# Altium schematic symbol library Inductors.SchLib: 5 symbols
Pins are listed as number, name and electrical type; pins without a type are passive.

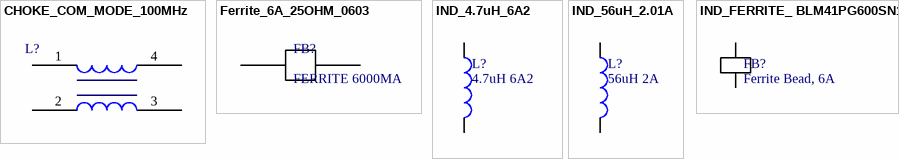
[diagram p0: symbols CHOKE_COM_MODE_100MHz to IND_FERRITE_ BLM41PG600SN1L]

## CHOKE_COM_MODE_100MHz
designator L?, comment CHOKE COM MODE ULTRA HC 100 OHMS  (value not drawn)
Manufacturer: Laird-Signal Integrity Products; Manufacturer P/N: CM5441Z101B-10
footprint Choke_CM5441Z101B-10 (CHOKE, COMMON, 100MHZ, SMD, 100R)
pins: 1 (power), 2 (power), 3 (power), 4 (power)

## Ferrite_6A_25OHM_0603
designator FB?, comment FERRITE 6000MA
FERRITE CHIP 26 OHM 6000MA 0603; Manufacturer: Murata Electronics North America; Manufacturer P/N: BLM18KG260TN1D
footprint 0603
pins: 1, 2

## IND_4.7uH_6A2
designator L?, comment 4.7uH 6A2
FIXED IND 4.7UH 6.2A 34 MOHM; Manufacturer: Wurth Electronics Inc; Manufacturer P/N: 74437356047
footprint Wurth744771156
pins: 1, 2

## IND_56uH_2.01A
designator L?, comment 56uH 2A
FIXED IND 56UH 2.01A 110 MOHM; Manufacturer: Wurth Electronics Inc; Manufacturer P/N: 744771156
footprint Wurth744771156
pins: 1, 2

## IND_FERRITE_ BLM41PG600SN1L
designator FB?, comment Ferrite Bead, 6A
Manufacturer: MURATA; Manufacturer P/N: BLM41PG600SN1L
footprint 1806
pins: 1, 2